# EAGLE library part ST1S10 (library vreg-pulse)
3 A, 900 kHz, monolithic synchronous step-down regulator
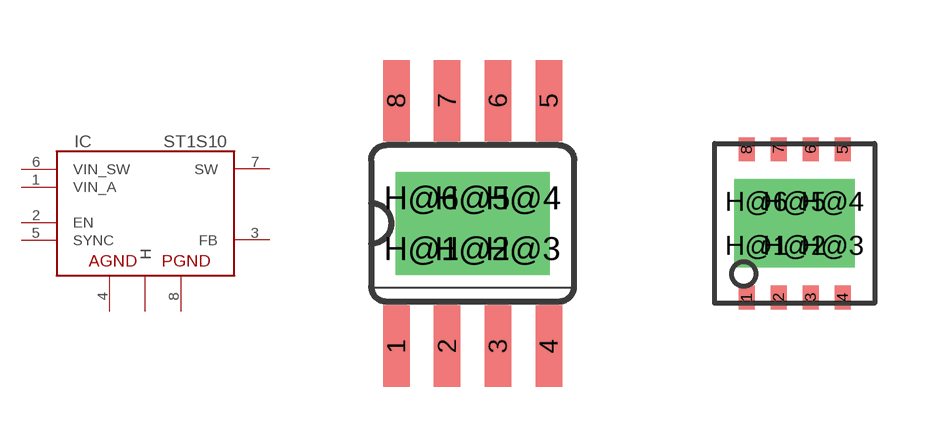
[diagram p6: symbol with the pads of HSOP8; footprints HSOP8, DFN8]

Designator prefix IC

## ST1S10PHR  [HSOP8]
1  VIN_A  pwr
2  EN  in
3  FB  in
4  AGND  pwr
5  SYNC  in
6  VIN_SW  pwr
7  SW  out
8  PGND  pwr
H@1  H  pas
H@2  H  pas
H@3  H  pas
H@4  H  pas
H@5  H  pas
H@6  H  pas

## ST1S10PUR  [DFN8]
Pads as for HSOP8

## Footprint HSOP8 (pad centres in mm)
smd 0.66 x 2.032: 1 -1.905,-3.073; 2 -0.635,-3.073; 3 0.635,-3.073; 4 1.905,-3.073; 5 1.905,3.073; 6 0.635,3.073; 7 -0.635,3.073; 8 -1.905,3.073
drill 0.8 square: H@1 -1.27,-0.635; H@2 0,-0.635; H@3 1.27,-0.635; H@4 1.27,0.635; H@5 0,0.635; H@6 -1.27,0.635

## Footprint DFN8 (pad centres in mm)
smd 0.4 x 0.6: 1 -1.2,-1.85; 2 -0.4,-1.85; 3 0.4,-1.85; 4 1.2,-1.85; 5 1.2,1.85; 6 0.4,1.85; 7 -0.4,1.85; 8 -1.2,1.85
drill 0.6 square: H@1 -0.95,-0.55; H@2 0,-0.55; H@3 0.95,-0.55; H@4 0.95,0.55; H@5 0,0.55; H@6 -0.95,0.55